# EAGLE library part LT3471 (library xmaker)
Linear Technology LT3471 - Dual 1.3A, 1.2MHz Boost/Inverter in 3mm × 3mm DFN.
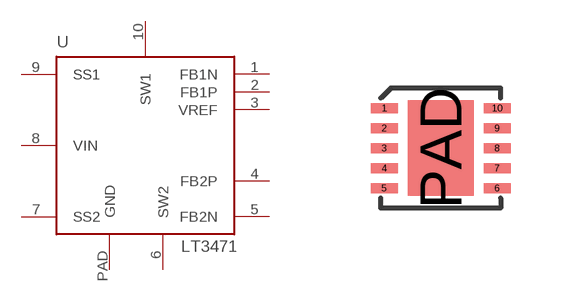
[diagram p12: symbol with the pads of DFN10-3X3-0.5; footprint DFN10-3X3-0.5]

Designator prefix U

## LT3471EDD  [DFN10-3X3-0.5]
1  FB1N
2  FB1P
3  VREF
4  FB2P
5  FB2N
6  SW2
7  SS2
8  VIN
9  SS1
10  SW1
PAD  GND

## Footprint DFN10-3X3-0.5 (pad centres in mm)
Dual Flat No Lead Package 3mm x 3mm, 0.5mm pitch
smd 0.675 x 0.25: 1 -1.413,1; 2 -1.413,0.5; 3 -1.413,0; 4 -1.413,-0.5; 5 -1.413,-1; 6 1.413,-1; 7 1.413,-0.5; 8 1.413,0; 9 1.413,0.5; 10 1.413,1
smd 1.65 x 2.38: PAD 0,0